# Altium integrated library JS102011JCQN.IntLib: 1 symbol
Pins are listed as number, name and electrical type; pins without a type are passive.

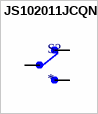
[diagram p0: symbol JS102011JCQN]

## JS102011JCQN
designator S?
Switch Slide Spdt 300ma 6v; MP: JS102011JCQN; Price: None; Value: *; Package: None; Availability: Unavailable
footprint SW_JS102011JCQN
pins: 1, 2, 3